# Altium footprint library VLS4012ET.PcbLib: 1 footprints
Each footprint in its own frame and in the unit in brackets; x right, y up, seen from the top. Pads: shape width x height; smd on the part's side, far side on the other; paste and mask are expansions set on the pad; w line width, h text height; cw(c..) or ccw(c..) is an arc to the next point about the centre after c.
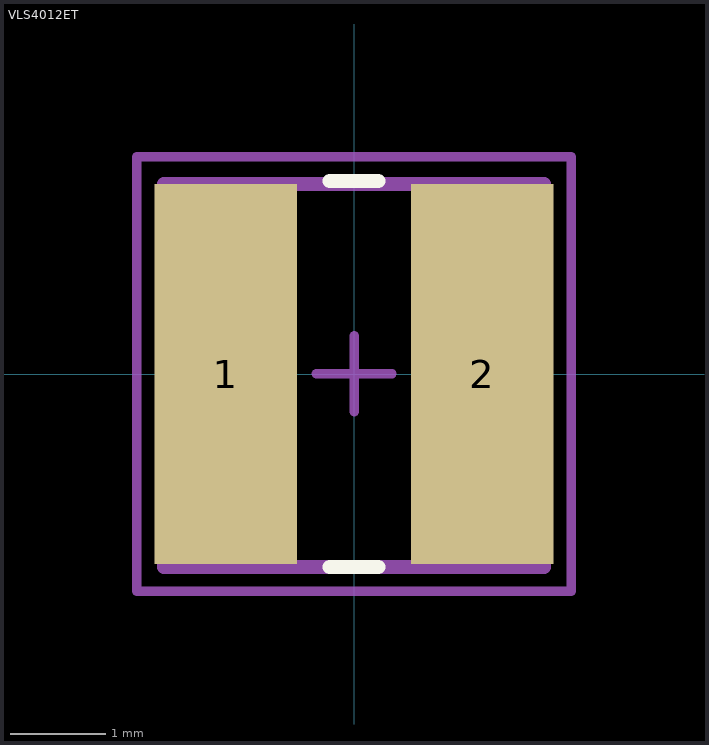
[diagram p0: the footprint, top view; thin cyan lines are the x and y axes]

## VLS4012ET [mm]
height 1.2
pads (2):
  rect 1.5x4 smd: 1(-1.35,0) 2(1.35,0)
Top Overlay:
  lines w0.152: -0.254,-2.032 0.254,-2.032 ; -0.254,2.032 0.254,2.032
Mechanical 13:
  circle w0.1: c-1.397,1.143 r0.359
  lines w0.15: -2,-2.032 -2,2 2,2 2,-2.032 -2,-2.032
Mechanical 15:
  lines w0.1: -0.4,0 0.4,0 ; 0,-0.4 0,0.4 ; -2.286,-2.286 2.286,-2.286 2.286,2.286 -2.286,2.286 -2.286,-2.286
3D body "IndLQS_4012.stp": height 1.19, standoff -0.01, extent -2,-2 2,2